# EAGLE library part CSD25310Q2 (library awgh_mosfets)
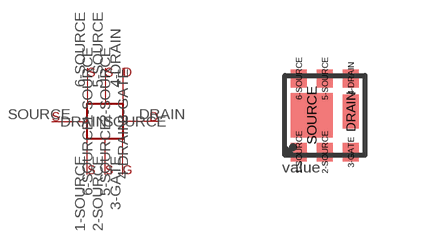
[diagram p0: symbol with the pads of SON6-2MM-2MM-MOSFET; footprint SON6-2MM-2MM-MOSFET]

Designator prefix -

## CSD25310Q2  [SON6-2MM-2MM-MOSFET]
1-SOURCE  1-SOURCE  pas
2-SOURCE  2-SOURCE  pas
3-GATE  3-GATE  pas
4-DRAIN  4-DRAIN  pas
5-SOURCE  5-SOURCE  pas
6-SOURCE  6-SOURCE  pas
DRAIN  DRAIN  pas
SOURCE  SOURCE  pas

## Footprint SON6-2MM-2MM-MOSFET (pad centres in mm)
Son-6 2mm x 2mm package for a MOSFET. Used by the csd25310q2.
smd 0.4 x 0.455: 1-SOURCE -0.65,-0.922; 2-SOURCE 0,-0.922; 3-GATE 0.65,-0.922; 4-DRAIN 0.65,0.922; 5-SOURCE 0,0.922; 6-SOURCE -0.65,0.922
smd 0.4 x 0.85: DRAIN 0.65,0.096
smd 1.05 x 1.1: SOURCE -0.325,0